# Altium integrated library TI Data Converters Analog to Digital Converter.IntLib: 2197 symbols (part 168 of 168)
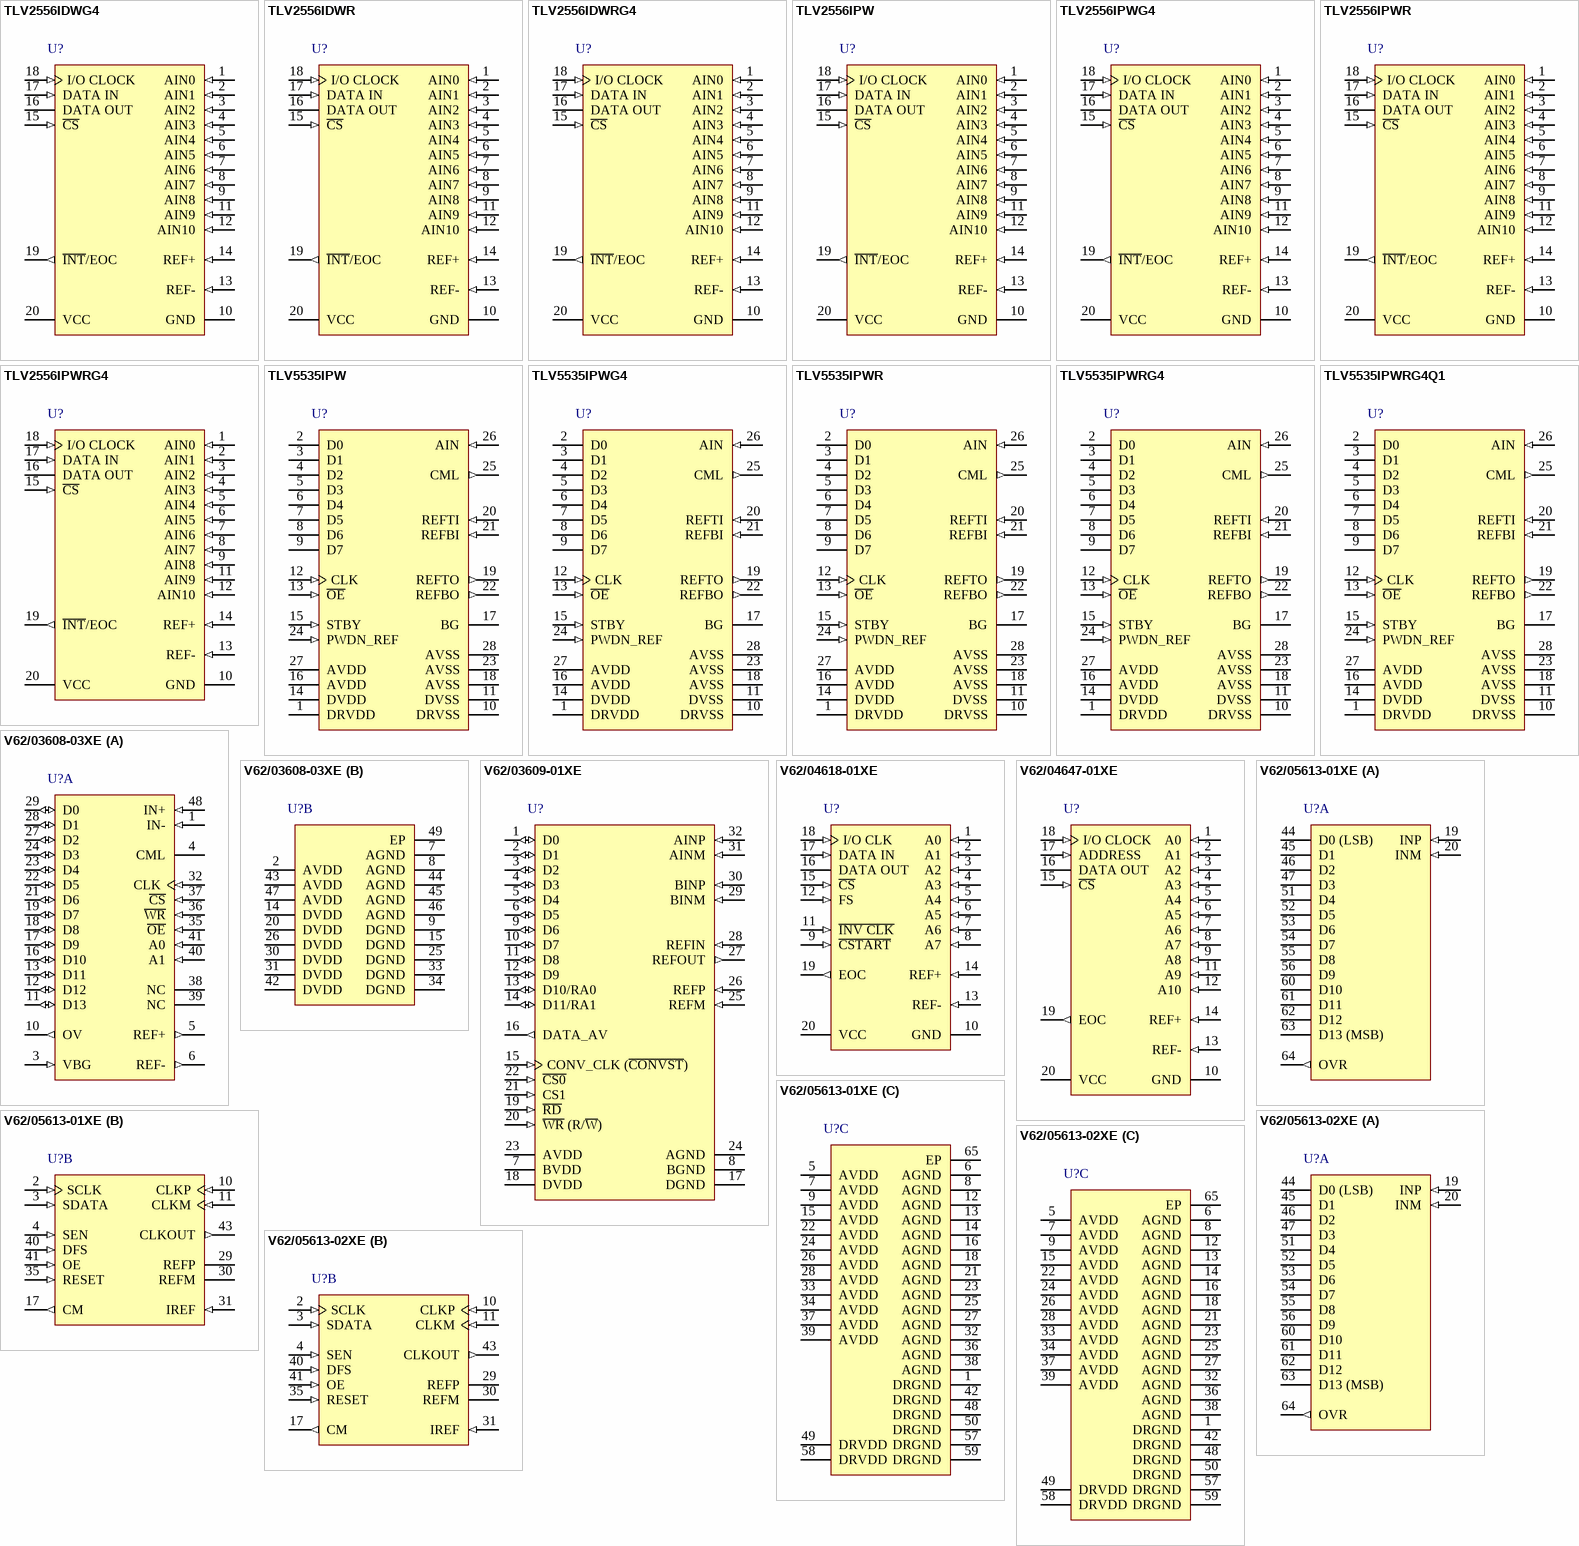
[diagram p293: symbols TLV2556IDWG4 to V62/05613-02XE]

## V62/05613-01XE
designator U?
Enhanced Product 14-Bit 125 MSPS ADC, -55 to 125 degC, 64-pin QFP (PAP64), Green (RoHS & no Sb/Br); Manufacturer: Texas Instruments; PartNumber: V62/05613-01XE; # Input Channels: 1; Analog Voltage AV/DD(Max)(V): 3.6; Analog Voltage AV/DD(Min)(V): 3; Architecture: Pipeline; ENOB(Bits): 11.3; INL(Max)(+/-LSB): 8; Interface: Parallel CMOS,Serial SPI Interface; Resolution(Bits): 14; Sample Rate (max)(SPS): 125M; SFDR(dB): 84; SINAD(dB): 70; SNR(dB): 71.5; SubFamily: High Speed ADC (>10MSPS); DatasheetVersion: SGLS286C; PackageVersion: 4147702/C, 08/2003; PackageReference: PAP64-4130X4130TP; PackageDescription: 64-Pin PowerPAD(TM) Plastic Quad Flatpack, Body 10 x 10 mm, Pitch 0.5 mm; Supplier 1: Mouser; Supplier Part Number 1: 926-ADC12081CIVT; Digital Supply(Max)(V): 3.6; Digital Supply(Min)(V): 3; Eco-Plan: Green (RoHS & no Sb/Br); Mounting Technology: Surface Mount; Code_JEDEC: MS-026; ComponentLink1Description: Manufacturer URL; ComponentLink1URL: http://www.ti.com/; ComponentLink2Description: Datasheet; ComponentLink2URL: http://www.ti.com/general/docs/lit/getliterature.tsp?genericPartNumber=ADS5500-EP&fileType=pdf; ComponentLink3Description: Package Specification; ComponentLink3URL: http://www.ti.com/lit/ml/mpqf071b/mpqf071b.pdf
footprint TI-PAP64-4130X4130TP_N (QFP, 64-Leads, Body 10x10mm, Pitch 0.5mm, Thermal Pad 4.15x4.15mm, IPC Medium Density)
footprint TI-PAP64-4130X4130TP_L (QFP, 64-Leads, Body 10x10mm, Pitch 0.5mm, Thermal Pad 4.15x4.15mm, IPC High Density)
footprint TI-PAP64-4130X4130TP_M (QFP, 64-Leads, Body 10x10mm, Pitch 0.5mm, Thermal Pad 4.15x4.15mm, IPC Low Density)
part A pins: 19 INP (in) "Differential analog input (positive)", 20 INM (in) "Differential analog input (negative)", 44 D0 (LSB) (hiz) "Parallel data output", 45 D1 (hiz) "Parallel data output", 46 D2 (hiz) "Parallel data output", 47 D3 (hiz) "Parallel data output", 51 D4 (hiz) "Parallel data output", 52 D5 (hiz) "Parallel data output", 53 D6 (hiz) "Parallel data output", 54 D7 (hiz) "Parallel data output", 55 D8 (hiz) "Parallel data output", 56 D9 (hiz) "Parallel data output", 60 D10 (hiz) "Parallel data output", 61 D11 (hiz) "Parallel data output", 62 D12 (hiz) "Parallel data output", 63 D13 (MSB) (hiz) "Parallel data output", 64 OVR (out) "Over-range indicator bit"
part B pins: 2 SCLK (in) "Serial interface clock", 3 SDATA (in) "Serial interface data", 4 SEN (in) "Serial interface chip select", 10 CLKP (in) "Data converter differential input clock (positive)", 11 CLKM (in) "Data converter differential input clock (negative)", 17 CM (out) "Common-mode output voltage", 29 REFP "Reference voltage (positive); 1-uF capacitor in series with a 1-ohm resistor to GND", 30 REFM "Reference voltage (negative); 1-uF capacitor in series with a 1-ohm resistor to GND", 31 IREF (in) "Current set; 56-kohm resistor to GND; do not connect capacitors", 35 RESET (in) "Reset (active high), 200-kohm resistor to AVDD", 40 DFS (in) "Data format and clock out polarity select", 41 OE (in) "Output enable (active high)", 43 CLKOUT (out) "CMOS clock out in sync with data"
part C pins: 1 DRGND (power) "Output driver ground", 5 AVDD (power) "Analog power supply", 6 AGND (power) "Analog ground", 7 AVDD (power) "Analog power supply", 8 AGND (power) "Analog ground", 9 AVDD (power) "Analog power supply", 12 AGND (power) "Analog ground", 13 AGND (power) "Analog ground", 14 AGND (power) "Analog ground", 15 AVDD (power) "Analog power supply", 16 AGND (power) "Analog ground", 18 AGND (power) "Analog ground", 21 AGND (power) "Analog ground", 22 AVDD (power) "Analog power supply", 23 AGND (power) "Analog ground", 24 AVDD (power) "Analog power supply", 25 AGND (power) "Analog ground", 26 AVDD (power) "Analog power supply", 27 AGND (power) "Analog ground", 28 AVDD (power) "Analog power supply", 32 AGND (power) "Analog ground", 33 AVDD (power) "Analog power supply", 34 AVDD (power) "Analog power supply", 36 AGND (power) "Analog ground", 37 AVDD (power) "Analog power supply", 38 AGND (power) "Analog ground", 39 AVDD (power) "Analog power supply", 42 DRGND (power) "Output driver ground", 48 DRGND (power) "Output driver ground", 49 DRVDD (power) "Output driver power supply", 50 DRGND (power) "Output driver ground", 57 DRGND (power) "Output driver ground", 58 DRVDD (power) "Output driver power supply", 59 DRGND (power) "Output driver ground", 65 EP (power) "Connected to Analog Ground"

## V62/05613-02XE
designator U?
Enhanced Product 14-Bit 125 MSPS ADC, -55 to 125 degC, 64-pin QFP (PAP64), Green (RoHS & no Sb/Br); Manufacturer: Texas Instruments; PartNumber: V62/05613-02XE; # Input Channels: 1; Analog Voltage AV/DD(Max)(V): 3.6; Analog Voltage AV/DD(Min)(V): 3; Architecture: Pipeline; ENOB(Bits): 11.3; INL(Max)(+/-LSB): 8; Interface: Parallel CMOS,Serial SPI Interface; Resolution(Bits): 14; Sample Rate (max)(SPS): 125M; SFDR(dB): 84; SINAD(dB): 70; SNR(dB): 71.5; SubFamily: High Speed ADC (>10MSPS); DatasheetVersion: SGLS286C; PackageVersion: 4147702/C, 08/2003; PackageReference: PAP64-4130X4130TP; PackageDescription: 64-Pin PowerPAD(TM) Plastic Quad Flatpack, Body 10 x 10 mm, Pitch 0.5 mm; Digital Supply(Max)(V): 3.6; Digital Supply(Min)(V): 3; Eco-Plan: Green (RoHS & no Sb/Br); Mounting Technology: Surface Mount; Code_JEDEC: MS-026; ComponentLink1Description: Manufacturer URL; ComponentLink1URL: http://www.ti.com/; ComponentLink2Description: Datasheet; ComponentLink2URL: http://www.ti.com/general/docs/lit/getliterature.tsp?genericPartNumber=ADS5500-EP&fileType=pdf; ComponentLink3Description: Package Specification; ComponentLink3URL: http://www.ti.com/lit/ml/mpqf071b/mpqf071b.pdf
footprint TI-PAP64-4130X4130TP_N (QFP, 64-Leads, Body 10x10mm, Pitch 0.5mm, Thermal Pad 4.15x4.15mm, IPC Medium Density)
footprint TI-PAP64-4130X4130TP_L (QFP, 64-Leads, Body 10x10mm, Pitch 0.5mm, Thermal Pad 4.15x4.15mm, IPC High Density)
footprint TI-PAP64-4130X4130TP_M (QFP, 64-Leads, Body 10x10mm, Pitch 0.5mm, Thermal Pad 4.15x4.15mm, IPC Low Density)
part A pins: 19 INP (in) "Differential analog input (positive)", 20 INM (in) "Differential analog input (negative)", 44 D0 (LSB) (hiz) "Parallel data output", 45 D1 (hiz) "Parallel data output", 46 D2 (hiz) "Parallel data output", 47 D3 (hiz) "Parallel data output", 51 D4 (hiz) "Parallel data output", 52 D5 (hiz) "Parallel data output", 53 D6 (hiz) "Parallel data output", 54 D7 (hiz) "Parallel data output", 55 D8 (hiz) "Parallel data output", 56 D9 (hiz) "Parallel data output", 60 D10 (hiz) "Parallel data output", 61 D11 (hiz) "Parallel data output", 62 D12 (hiz) "Parallel data output", 63 D13 (MSB) (hiz) "Parallel data output", 64 OVR (out) "Over-range indicator bit"
part B pins: 2 SCLK (in) "Serial interface clock", 3 SDATA (in) "Serial interface data", 4 SEN (in) "Serial interface chip select", 10 CLKP (in) "Data converter differential input clock (positive)", 11 CLKM (in) "Data converter differential input clock (negative)", 17 CM (out) "Common-mode output voltage", 29 REFP "Reference voltage (positive); 1-uF capacitor in series with a 1-ohm resistor to GND", 30 REFM "Reference voltage (negative); 1-uF capacitor in series with a 1-ohm resistor to GND", 31 IREF (in) "Current set; 56-kohm resistor to GND; do not connect capacitors", 35 RESET (in) "Reset (active high), 200-kohm resistor to AVDD", 40 DFS (in) "Data format and clock out polarity select", 41 OE (in) "Output enable (active high)", 43 CLKOUT (out) "CMOS clock out in sync with data"
part C pins: 1 DRGND (power) "Output driver ground", 5 AVDD (power) "Analog power supply", 6 AGND (power) "Analog ground", 7 AVDD (power) "Analog power supply", 8 AGND (power) "Analog ground", 9 AVDD (power) "Analog power supply", 12 AGND (power) "Analog ground", 13 AGND (power) "Analog ground", 14 AGND (power) "Analog ground", 15 AVDD (power) "Analog power supply", 16 AGND (power) "Analog ground", 18 AGND (power) "Analog ground", 21 AGND (power) "Analog ground", 22 AVDD (power) "Analog power supply", 23 AGND (power) "Analog ground", 24 AVDD (power) "Analog power supply", 25 AGND (power) "Analog ground", 26 AVDD (power) "Analog power supply", 27 AGND (power) "Analog ground", 28 AVDD (power) "Analog power supply", 32 AGND (power) "Analog ground", 33 AVDD (power) "Analog power supply", 34 AVDD (power) "Analog power supply", 36 AGND (power) "Analog ground", 37 AVDD (power) "Analog power supply", 38 AGND (power) "Analog ground", 39 AVDD (power) "Analog power supply", 42 DRGND (power) "Output driver ground", 48 DRGND (power) "Output driver ground", 49 DRVDD (power) "Output driver power supply", 50 DRGND (power) "Output driver ground", 57 DRGND (power) "Output driver ground", 58 DRVDD (power) "Output driver power supply", 59 DRGND (power) "Output driver ground", 65 EP (power) "Connected to Analog Ground"

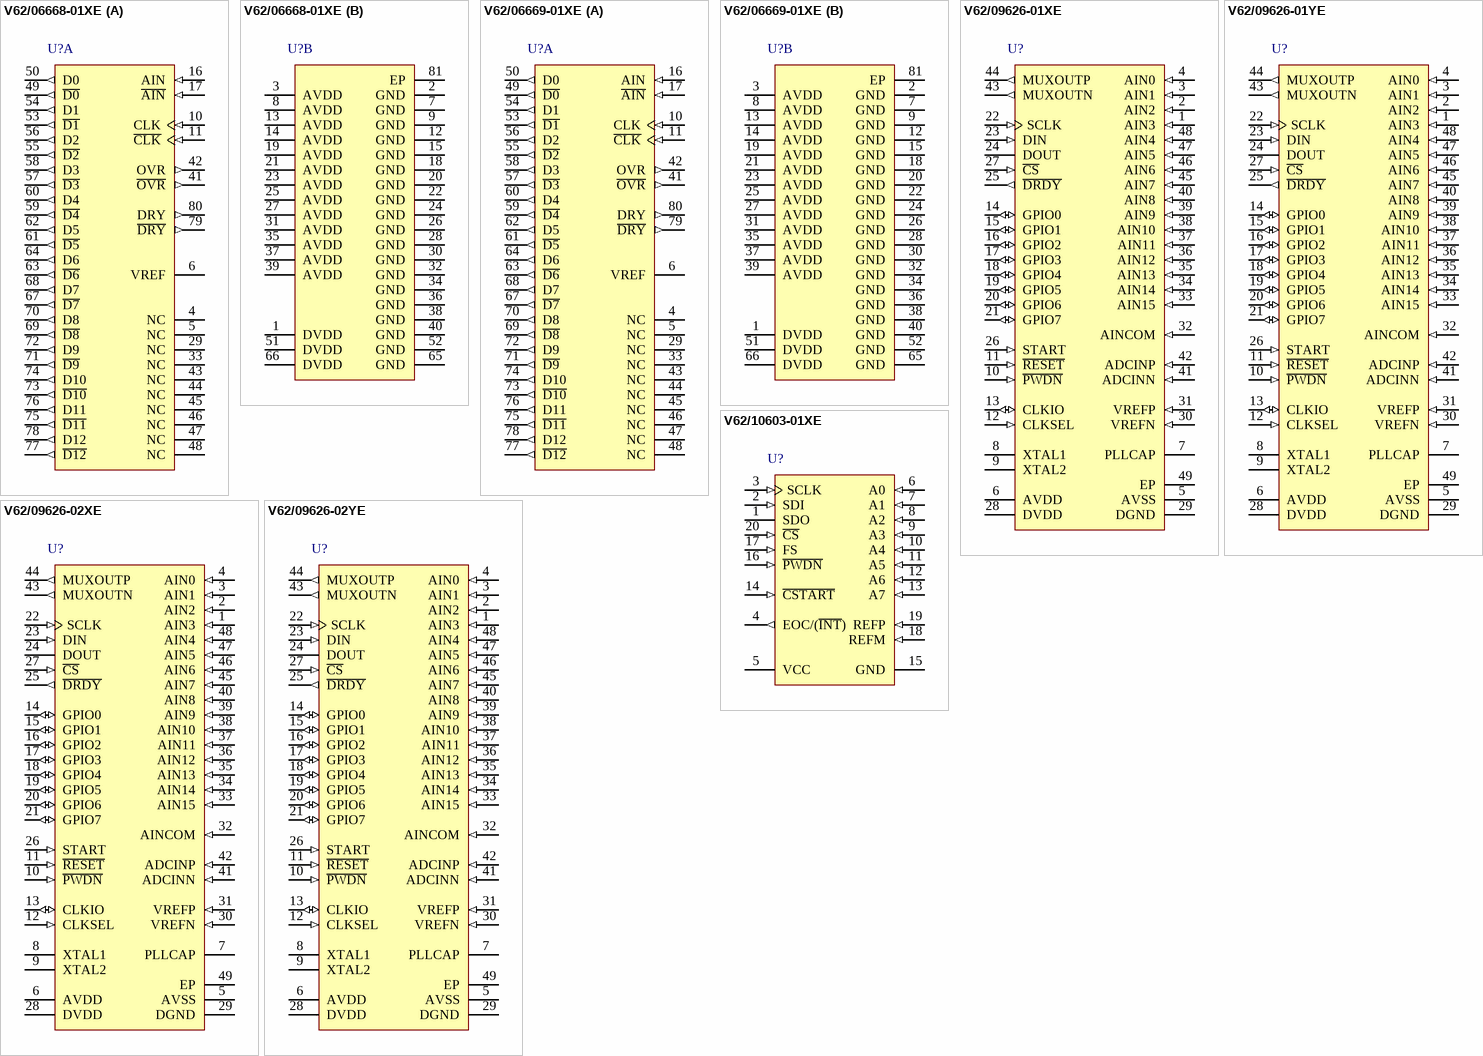
[diagram p126: symbols V62/06668-01XE to V62/10603-01XE]

## V62/06668-01XE
designator U?
Enhanced Product 13-Bit 250 MSPS ADC, -55 to 125 degC, 80-pin QFP (PFP80), Green (RoHS & no Sb/Br); Manufacturer: Texas Instruments; PartNumber: V62/06668-01XE; # Input Channels: 1; Analog Voltage AV/DD(Max)(V): 5.25; Analog Voltage AV/DD(Min)(V): 4.75; Architecture: Pipeline; Digital Supply(Max)(V): 3.6; Digital Supply(Min)(V): 3; ENOB(Bits): 11.2; INL(Max)(+/-LSB): 2.2; Interface: Parallel LVDS; Resolution(Bits): 13; Sample Rate (max)(SPS): 250M; SFDR(dB): 85; SINAD(dB): 69; SNR(dB): 69.3; SubFamily: High Speed ADC (>10MSPS); DatasheetVersion: SGLS360; PackageVersion: 4146925/C, 07/2011; PackageReference: PFP80-6825X6825TP; PackageDescription: 80-Pin PowerPAD(TM) Plastic Quad Flatpack, Body 12 x 12 mm, Pitch 0.5 mm; Supplier 1: Digi-Key; Supplier Part Number 1: ADS5407IZAY-ND; Supplier 2: Newark; Supplier Part Number 2: 73W9435; Supplier 3: Mouser; Supplier Part Number 3: 595-ADS5407IZAY; Eco-Plan: Green (RoHS & no Sb/Br); Mounting Technology: Surface Mount; Code_JEDEC: MS-026; ComponentLink1Description: Manufacturer URL; ComponentLink1URL: http://www.ti.com/; ComponentLink2Description: Datasheet; ComponentLink2URL: http://www.ti.com/general/docs/lit/getliterature.tsp?genericPartNumber=ADS5444-EP&fileType=pdf; ComponentLink3Description: Package Specification; ComponentLink3URL: http://www.ti.com/litv/pdf/mpqf049b
footprint TI-PFP80-6825X6825TP_N (QFP, 80-Leads, Body 12x12mm, Pitch 0.5mm, Thermal Pad 7.5x7.5mm, IPC Medium Density)
footprint TI-PFP80-6825X6825TP_L (QFP, 80-Leads, Body 12x12mm, Pitch 0.5mm, Thermal Pad 7.5x7.5mm, IPC High Density)
footprint TI-PFP80-6825X6825TP_M (QFP, 80-Leads, Body 12x12mm, Pitch 0.5mm, Thermal Pad 7.5x7.5mm, IPC Low Density)
part A pins: 4 NC "No connect", 5 NC "No connect", 6 VREF "Reference voltage", 10 CLK (in) "Differential input clock (positive). Conversion initiated on rising edge", 11 ~{CLK} (in) "Differential input clock (negative)", 16 AIN (in) "Differential input signal (positive)", 17 ~{AIN} (in) "Differential input signal (negative)", 29 NC "No connect", 33 NC "No connect", 41 ~{OVR} (out) "Over range indicator LVDS output. A logic high signals an analog input in excess of the full-scale range", 42 OVR (out) "Over range indicator LVDS output. A logic high signals an analog input in excess of the full-scale range", 43 NC "No connect", 44 NC "No connect", 45 NC "No connect", 46 NC "No connect", 47 NC "No connect", 48 NC "No connect", 49 ~{D0} (out) "LVDS digital output pair, least-significant bit (LSB)", 50 D0 (out) "LVDS digital output pair, least-significant bit (LSB)", 53 ~{D1} (out) "LVDS digital output pairs", 54 D1 (out) "LVDS digital output pairs", 55 ~{D2} (out) "LVDS digital output pairs", 56 D2 (out) "LVDS digital output pairs", 57 ~{D3} (out) "LVDS digital output pairs", 58 D3 (out) "LVDS digital output pairs", 59 ~{D4} (out) "LVDS digital output pairs", 60 D4 (out) "LVDS digital output pairs", 61 ~{D5} (out) "LVDS digital output pairs", 62 D5 (out) "LVDS digital output pairs", 63 ~{D6} (out) "LVDS digital output pairs", 64 D6 (out) "LVDS digital output pairs", 67 ~{D7} (out) "LVDS digital output pairs", 68 D7 (out) "LVDS digital output pairs", 69 ~{D8} (out) "LVDS digital output pairs", 70 D8 (out) "LVDS digital output pairs", 71 ~{D9} (out) "LVDS digital output pairs", 72 D9 (out) "LVDS digital output pairs", 73 ~{D10} (out) "LVDS digital output pairs", 74 D10 (out) "LVDS digital output pairs", 75 ~{D11} (out) "LVDS digital output pairs", 76 D11 (out) "LVDS digital output pairs", 77 ~{D12} (out) "LVDS digital output pair, most-significant bit (MSB)", 78 D12 (out) "LVDS digital output pair, most-significant bit (MSB)", 79 ~{DRY} (out) "Data ready LVDS output pair", 80 DRY (out) "Data ready LVDS output pair"
part B pins: 1 DVDD (power) "Output driver power supply", 2 GND (power) "Ground", 3 AVDD (power) "Analog power supply", 7 GND (power) "Ground", 8 AVDD (power) "Analog power supply", 9 GND (power) "Ground", 12 GND (power) "Ground", 13 AVDD (power) "Analog power supply", 14 AVDD (power) "Analog power supply", 15 GND (power) "Ground", 18 GND (power) "Ground", 19 AVDD (power) "Analog power supply", 20 GND (power) "Ground", 21 AVDD (power) "Analog power supply", 22 GND (power) "Ground", 23 AVDD (power) "Analog power supply", 24 GND (power) "Ground", 25 AVDD (power) "Analog power supply", 26 GND (power) "Ground", 27 AVDD (power) "Analog power supply", 28 GND (power) "Ground", 30 GND (power) "Ground", 31 AVDD (power) "Analog power supply", 32 GND (power) "Ground", 34 GND (power) "Ground", 35 AVDD (power) "Analog power supply", 36 GND (power) "Ground", 37 AVDD (power) "Analog power supply", 38 GND (power) "Ground", 39 AVDD (power) "Analog power supply", 40 GND (power) "Ground", 51 DVDD (power) "Output driver power supply", 52 GND (power) "Ground", 65 GND (power) "Ground", 66 DVDD (power) "Output driver power supply", 81 EP (power)

## V62/06669-01XE
designator U?
Enhanced Product 13-Bit 210 MSPS ADC, -55 to 125 degC, 80-pin QFP (PFP80), Green (RoHS & no Sb/Br); Manufacturer: Texas Instruments; PartNumber: V62/06669-01XE; # Input Channels: 1; Analog Voltage AV/DD(Max)(V): 5.25; Analog Voltage AV/DD(Min)(V): 4.75; Architecture: Pipeline; Digital Supply(Max)(V): 3.6; Digital Supply(Min)(V): 3; ENOB(Bits): 11.4; INL(Max)(+/-LSB): 2.2; Interface: Parallel LVDS; Resolution(Bits): 13; Sample Rate (max)(SPS): 210M; SFDR(dB): 84; SINAD(dB): 69.6; SNR(dB): 69.8; SubFamily: High Speed ADC (>10MSPS); DatasheetVersion: SGLS359; PackageVersion: 4146925/C, 07/2011; PackageReference: PFP80-6825X6825TP; PackageDescription: 80-Pin PowerPAD(TM) Plastic Quad Flatpack, Body 12 x 12 mm, Pitch 0.5 mm; Supplier 1: Digi-Key; Supplier Part Number 1: ADC121S101QIMF/NOPB-ND; Supplier 2: Newark; Supplier Part Number 2: 55W5772; Supplier 3: Mouser; Supplier Part Number 3: 595-DC121S101QIMFNPB; Eco-Plan: Green (RoHS & no Sb/Br); Mounting Technology: Surface Mount; Code_JEDEC: MS-026; ComponentLink1Description: Manufacturer URL; ComponentLink1URL: http://www.ti.com/; ComponentLink2Description: Datasheet; ComponentLink2URL: http://www.ti.com/general/docs/lit/getliterature.tsp?genericPartNumber=ADS5440-EP&fileType=pdf; ComponentLink3Description: Package Specification; ComponentLink3URL: http://www.ti.com/litv/pdf/mpqf049b
footprint TI-PFP80-6825X6825TP_N (QFP, 80-Leads, Body 12x12mm, Pitch 0.5mm, Thermal Pad 7.5x7.5mm, IPC Medium Density)
footprint TI-PFP80-6825X6825TP_L (QFP, 80-Leads, Body 12x12mm, Pitch 0.5mm, Thermal Pad 7.5x7.5mm, IPC High Density)
footprint TI-PFP80-6825X6825TP_M (QFP, 80-Leads, Body 12x12mm, Pitch 0.5mm, Thermal Pad 7.5x7.5mm, IPC Low Density)
part A pins: 4 NC "No connect", 5 NC "No connect", 6 VREF "Reference voltage", 10 CLK (in) "Differential input clock (positive). Conversion initiated on rising edge", 11 ~{CLK} (in) "Differential input clock (negative)", 16 AIN (in) "Differential input signal (positive)", 17 ~{AIN} (in) "Differential input signal (negative)", 29 NC "No connect", 33 NC "No connect", 41 ~{OVR} (out) "Over range indicator LVDS output. A logic high signals an analog input in excess of the full-scale range", 42 OVR (out) "Over range indicator LVDS output. A logic high signals an analog input in excess of the full-scale range", 43 NC "No connect", 44 NC "No connect", 45 NC "No connect", 46 NC "No connect", 47 NC "No connect", 48 NC "No connect", 49 ~{D0} (out) "LVDS digital output pair, least-significant bit (LSB)", 50 D0 (out) "LVDS digital output pair, least-significant bit (LSB)", 53 ~{D1} (out) "LVDS digital output pairs", 54 D1 (out) "LVDS digital output pairs", 55 ~{D2} (out) "LVDS digital output pairs", 56 D2 (out) "LVDS digital output pairs", 57 ~{D3} (out) "LVDS digital output pairs", 58 D3 (out) "LVDS digital output pairs", 59 ~{D4} (out) "LVDS digital output pairs", 60 D4 (out) "LVDS digital output pairs", 61 ~{D5} (out) "LVDS digital output pairs", 62 D5 (out) "LVDS digital output pairs", 63 ~{D6} (out) "LVDS digital output pairs", 64 D6 (out) "LVDS digital output pairs", 67 ~{D7} (out) "LVDS digital output pairs", 68 D7 (out) "LVDS digital output pairs", 69 ~{D8} (out) "LVDS digital output pairs", 70 D8 (out) "LVDS digital output pairs", 71 ~{D9} (out) "LVDS digital output pairs", 72 D9 (out) "LVDS digital output pairs", 73 ~{D10} (out) "LVDS digital output pairs", 74 D10 (out) "LVDS digital output pairs", 75 ~{D11} (out) "LVDS digital output pairs", 76 D11 (out) "LVDS digital output pairs", 77 ~{D12} (out) "LVDS digital output pair, most-significant bit (MSB)", 78 D12 (out) "LVDS digital output pair, most-significant bit (MSB)", 79 ~{DRY} (out) "Data ready LVDS output pair", 80 DRY (out) "Data ready LVDS output pair"
part B pins: 1 DVDD (power) "Output driver power supply", 2 GND (power) "Ground", 3 AVDD (power) "Analog power supply", 7 GND (power) "Ground", 8 AVDD (power) "Analog power supply", 9 GND (power) "Ground", 12 GND (power) "Ground", 13 AVDD (power) "Analog power supply", 14 AVDD (power) "Analog power supply", 15 GND (power) "Ground", 18 GND (power) "Ground", 19 AVDD (power) "Analog power supply", 20 GND (power) "Ground", 21 AVDD (power) "Analog power supply", 22 GND (power) "Ground", 23 AVDD (power) "Analog power supply", 24 GND (power) "Ground", 25 AVDD (power) "Analog power supply", 26 GND (power) "Ground", 27 AVDD (power) "Analog power supply", 28 GND (power) "Ground", 30 GND (power) "Ground", 31 AVDD (power) "Analog power supply", 32 GND (power) "Ground", 34 GND (power) "Ground", 35 AVDD (power) "Analog power supply", 36 GND (power) "Ground", 37 AVDD (power) "Analog power supply", 38 GND (power) "Ground", 39 AVDD (power) "Analog power supply", 40 GND (power) "Ground", 51 DVDD (power) "Output driver power supply", 52 GND (power) "Ground", 65 GND (power) "Ground", 66 DVDD (power) "Output driver power supply", 81 EP (power)

## V62/09626-01XE
designator U?
Enhanced Product 16-Channel, 24-Bit ADC, -55 to 125 degC, 48-pin QFN (RTC48), Green (RoHS & no Sb/Br); Manufacturer: Texas Instruments; PartNumber: V62/09626-01XE; # Input Channels: 16; Analog Voltage AV/DD(Max)(V): 5.25; Analog Voltage AV/DD(Min)(V): 4.75; Architecture: Delta-Sigma; Digital Supply(Min)(V): 2.7; Resolution(Bits): 24; Sample Rate (max)(SPS): 125k; SubFamily: Precision ADC (<=10MSPS); DatasheetVersion: SBAS445D; PackageVersion: 4205143/D, 05/2011; PackageReference: RTC48-5100X5100TP; PackageDescription: 48-Pin Plastic Quad Flatpack No-Lead, Body 7 x 7 mm, Pitch 0.5 mm; Supplier 1: Digi-Key; Supplier Part Number 1: ADS5295PFP-ND; Supplier 2: Newark; Supplier Part Number 2: 55W5787; Supplier 3: Mouser; Supplier Part Number 3: 595-ADS5295PFP; Digital Supply(Max)(V): 5.25; Eco-Plan: Green (RoHS & no Sb/Br); Mounting Technology: Surface Mount; ComponentLink1Description: Manufacturer URL; ComponentLink1URL: http://www.ti.com/; ComponentLink2Description: Datasheet; ComponentLink2URL: http://www.ti.com/general/docs/lit/getliterature.tsp?genericPartNumber=ADS1258-EP&fileType=pdf; ComponentLink3Description: Package Specification; ComponentLink3URL: http://www.ti.com/litv/pdf/mpqf140c
footprint TI-RTC48-5100X5100TP_V (QFN, 48-Leads, Body 7x7mm, Pitch 0.5mm, Thermal Pad 5.1x5.1mm, TI Recommended)
pins: 1 AIN3 (in) "Analog Input 3: Single-Ended Channel 3, Differential Channel 1 (-)", 2 AIN2 (in) "Analog Input 2: Single-Ended Channel 2, Differential Channel 1 (+)", 3 AIN1 (in) "Analog Input 1: Single-Ended Channel 1, Differential Channel 0 (-)", 4 AIN0 (in) "Analog Input 0: Single-Ended Channel 0, Differential Channel 0 (+)", 5 AVSS (power) "Negative Analog Power Supply: 0V for unipolar operation, -2.5 V for bipolar operation. (Internally connected to exposed thermal pad of QFN package.)", 6 AVDD (power) "Positive Analog Power Supply: 5 V for unipolar operation, 2.5 V for bipolar operation.", 7 PLLCAP "PLL Bypass Capacitor: Connect 22nF capacitor to AVSS when using crystal oscillator.", 8 XTAL1 "32.768-kHz Crystal Oscillator Input 1; see the Chrystal Oscillator section.", 9 XTAL2 "32.768-kHz Crystal Oscillator Input 2; see the Chrystal Oscillator section.", 10 ~{PWDN} (in) "Power-Down Input: Hold low for minimum of two fCLK cycles to engage low-power mode.", 11 ~{RESET} (in) "Reset Input: Hold low for minimum of two fCLK cycles to reset the device.", 12 CLKSEL (in) "Clock Select Input: Low = Activates Crystal Oscillator, fCLK output on CLKIO. High = Disables Crystal Oscillator, apply fCLK to CLKIO.", 13 CLKIO (io) "System Clock Input/Output (See CLKSEL pin.)", 14 GPIO0 (io) "General-Purpose Digital Input/Output 0", 15 GPIO1 (io) "General-Purpose Digital Input/Output 1", 16 GPIO2 (io) "General-Purpose Digital Input/Output 2", 17 GPIO3 (io) "General-Purpose Digital Input/Output 3", 18 GPIO4 (io) "General-Purpose Digital Input/Output 4", 19 GPIO5 (io) "General-Purpose Digital Input/Output 5", 20 GPIO6 (io) "General-Purpose Digital Input/Output 6", 21 GPIO7 (io) "General-Purpose Digital Input/Output 7", 22 SCLK (in) "SPI Interface Clock Input: Data clocked in on rising edge, clocked out on falling edge.", 23 DIN (in) "SPI Interface Data Input: Data is input to the device.", 24 DOUT (hiz) "SPI Interface Data Output: Data is output from the device.", 25 ~{DRDY} (out) "Data Ready Output: Active low.", 26 START (in) "Start Conversion Input: Active high.", 27 ~{CS} (in) "SPI Interface Chip Select Input: Active low.", 28 DVDD (power) "Digital Power Supply: 2.7 V to 5.25 V", 29 DGND (power) "Digital Ground", 30 VREFN (in) "Reference Input Negative", 31 VREFP (in) "Reference Input Positive", 32 AINCOM (in) "Analog Input Common: Common input pin to all single-ended inputs.", 33 AIN15 (in) "Analog Input 15: Single-Ended Channel 15, Differential Channel 7 (-)", 34 AIN14 (in) "Analog Input 14: Single-Ended Channel 14, Differential Channel 7 (+)", 35 AIN13 (in) "Analog Input 13: Single-Ended Channel 13, Differential Channel 6 (-)", 36 AIN12 (in) "Analog Input 12: Single-Ended Channel 12, Differential Channel 6 (+)", 37 AIN11 (in) "Analog Input 11: Single-Ended Channel 11, Differential Channel 5 (-)", 38 AIN10 (in) "Analog Input 10: Single-Ended Channel 10, Differential Channel 5 (+)", 39 AIN9 (in) "Analog Input 9: Single-Ended Channel 9, Differential Channel 4 (-)", 40 AIN8 (in) "Analog Input 8: Single-Ended Channel 8, Differential Channel 4 (+)", 41 ADCINN (in) "ADC Differential Input (-)", 42 ADCINP (in) "ADC Differential Input (+)", 43 MUXOUTN (out) "Multiplexer Differential Output (-)", 44 MUXOUTP (out) "Multiplexer Differential Output (+)", 45 AIN7 (in) "Analog Input 7: Single-Ended Channel 7, Differential Channel 3 (-)", 46 AIN6 (in) "Analog Input 6 : Single-Ended Channel 6, Differential Channel 3 (+)", 47 AIN5 (in) "Analog Input 5: Single-Ended Channel 5, Differential Channel 2 (-)", 48 AIN4 (in) "Analog Input 4: Single-Ended Channel 4, Differential Channel 2 (+)", 49 EP (power)

## V62/09626-01YE
designator U?
Enhanced Product 16-Channel, 24-Bit ADC, -55 to 125 degC, 48-pin QFP (PHP48), Green (RoHS & no Sb/Br); Manufacturer: Texas Instruments; PartNumber: V62/09626-01YE; # Input Channels: 16; Analog Voltage AV/DD(Max)(V): 5.25; Analog Voltage AV/DD(Min)(V): 4.75; Architecture: Delta-Sigma; Digital Supply(Min)(V): 2.7; Resolution(Bits): 24; Sample Rate (max)(SPS): 125k; SubFamily: Precision ADC (<=10MSPS); DatasheetVersion: SBAS445D; PackageVersion: 4146927/B, 08/2003; PackageReference: PHP48-4050X4050TP; PackageDescription: 48-Pin PowerPAD(TM) Plastic Quad Flatpack, Body 7 x 7 mm, Pitch 0.5 mm; Supplier 1: Digi-Key; Supplier Part Number 1: ADC128S052QCMT/NOPB-ND; Supplier 2: Newark; Supplier Part Number 2: 31T9242; Supplier 3: Mouser; Supplier Part Number 3: 926-AD128S052QCMTNPB; Digital Supply(Max)(V): 5.25; Eco-Plan: Green (RoHS & no Sb/Br); Mounting Technology: Surface Mount; Code_JEDEC: MS-026; ComponentLink1Description: Manufacturer URL; ComponentLink1URL: http://www.ti.com/; ComponentLink2Description: Datasheet; ComponentLink2URL: http://www.ti.com/general/docs/lit/getliterature.tsp?genericPartNumber=ADS1258-EP&fileType=pdf; ComponentLink3Description: Package Specification; ComponentLink3URL: http://www.ti.com/litv/pdf/mpqf051a
footprint TI-PHP48-4050X4050TP_N (QFP, 48-Leads, Body 7x7mm, Pitch 0.5mm, Thermal Pad 4.6x4.6mm, IPC Medium Density)
footprint TI-PHP48-4050X4050TP_L (QFP, 48-Leads, Body 7x7mm, Pitch 0.5mm, Thermal Pad 4.6x4.6mm, IPC High Density)
footprint TI-PHP48-4050X4050TP_M (QFP, 48-Leads, Body 7x7mm, Pitch 0.5mm, Thermal Pad 4.6x4.6mm, IPC Low Density)
pins: 1 AIN3 (in) "Analog Input 3: Single-Ended Channel 3, Differential Channel 1 (-)", 2 AIN2 (in) "Analog Input 2: Single-Ended Channel 2, Differential Channel 1 (+)", 3 AIN1 (in) "Analog Input 1: Single-Ended Channel 1, Differential Channel 0 (-)", 4 AIN0 (in) "Analog Input 0: Single-Ended Channel 0, Differential Channel 0 (+)", 5 AVSS (power) "Negative Analog Power Supply: 0V for unipolar operation, -2.5 V for bipolar operation. (Internally connected to exposed thermal pad of QFN package.)", 6 AVDD (power) "Positive Analog Power Supply: 5 V for unipolar operation, 2.5 V for bipolar operation.", 7 PLLCAP "PLL Bypass Capacitor: Connect 22nF capacitor to AVSS when using crystal oscillator.", 8 XTAL1 "32.768-kHz Crystal Oscillator Input 1; see the Chrystal Oscillator section.", 9 XTAL2 "32.768-kHz Crystal Oscillator Input 2; see the Chrystal Oscillator section.", 10 ~{PWDN} (in) "Power-Down Input: Hold low for minimum of two fCLK cycles to engage low-power mode.", 11 ~{RESET} (in) "Reset Input: Hold low for minimum of two fCLK cycles to reset the device.", 12 CLKSEL (in) "Clock Select Input: Low = Activates Crystal Oscillator, fCLK output on CLKIO. High = Disables Crystal Oscillator, apply fCLK to CLKIO.", 13 CLKIO (io) "System Clock Input/Output (See CLKSEL pin.)", 14 GPIO0 (io) "General-Purpose Digital Input/Output 0", 15 GPIO1 (io) "General-Purpose Digital Input/Output 1", 16 GPIO2 (io) "General-Purpose Digital Input/Output 2", 17 GPIO3 (io) "General-Purpose Digital Input/Output 3", 18 GPIO4 (io) "General-Purpose Digital Input/Output 4", 19 GPIO5 (io) "General-Purpose Digital Input/Output 5", 20 GPIO6 (io) "General-Purpose Digital Input/Output 6", 21 GPIO7 (io) "General-Purpose Digital Input/Output 7", 22 SCLK (in) "SPI Interface Clock Input: Data clocked in on rising edge, clocked out on falling edge.", 23 DIN (in) "SPI Interface Data Input: Data is input to the device.", 24 DOUT (hiz) "SPI Interface Data Output: Data is output from the device.", 25 ~{DRDY} (out) "Data Ready Output: Active low.", 26 START (in) "Start Conversion Input: Active high.", 27 ~{CS} (in) "SPI Interface Chip Select Input: Active low.", 28 DVDD (power) "Digital Power Supply: 2.7 V to 5.25 V", 29 DGND (power) "Digital Ground", 30 VREFN (in) "Reference Input Negative", 31 VREFP (in) "Reference Input Positive", 32 AINCOM (in) "Analog Input Common: Common input pin to all single-ended inputs.", 33 AIN15 (in) "Analog Input 15: Single-Ended Channel 15, Differential Channel 7 (-)", 34 AIN14 (in) "Analog Input 14: Single-Ended Channel 14, Differential Channel 7 (+)", 35 AIN13 (in) "Analog Input 13: Single-Ended Channel 13, Differential Channel 6 (-)", 36 AIN12 (in) "Analog Input 12: Single-Ended Channel 12, Differential Channel 6 (+)", 37 AIN11 (in) "Analog Input 11: Single-Ended Channel 11, Differential Channel 5 (-)", 38 AIN10 (in) "Analog Input 10: Single-Ended Channel 10, Differential Channel 5 (+)", 39 AIN9 (in) "Analog Input 9: Single-Ended Channel 9, Differential Channel 4 (-)", 40 AIN8 (in) "Analog Input 8: Single-Ended Channel 8, Differential Channel 4 (+)", 41 ADCINN (in) "ADC Differential Input (-)", 42 ADCINP (in) "ADC Differential Input (+)", 43 MUXOUTN (out) "Multiplexer Differential Output (-)", 44 MUXOUTP (out) "Multiplexer Differential Output (+)", 45 AIN7 (in) "Analog Input 7: Single-Ended Channel 7, Differential Channel 3 (-)", 46 AIN6 (in) "Analog Input 6 : Single-Ended Channel 6, Differential Channel 3 (+)", 47 AIN5 (in) "Analog Input 5: Single-Ended Channel 5, Differential Channel 2 (-)", 48 AIN4 (in) "Analog Input 4: Single-Ended Channel 4, Differential Channel 2 (+)", 49 EP (power)

## V62/09626-02XE
designator U?
Enhanced Product 16-Channel, 24-Bit ADC, -55 to 125 degC, 48-pin QFP (PHP48), Green (RoHS & no Sb/Br); Manufacturer: Texas Instruments; PartNumber: V62/09626-02XE; # Input Channels: 16; Analog Voltage AV/DD(Max)(V): 5.25; Analog Voltage AV/DD(Min)(V): 4.75; Architecture: Delta-Sigma; Digital Supply(Min)(V): 2.7; Resolution(Bits): 24; Sample Rate (max)(SPS): 125k; SubFamily: Precision ADC (<=10MSPS); DatasheetVersion: SBAS445D; PackageVersion: 4146927/B, 08/2003; PackageReference: PHP48-4050X4050TP; PackageDescription: 48-Pin PowerPAD(TM) Plastic Quad Flatpack, Body 7 x 7 mm, Pitch 0.5 mm; Supplier 1: Mouser; Supplier Part Number 1: N/A; Digital Supply(Max)(V): 5.25; Eco-Plan: Green (RoHS & no Sb/Br); Mounting Technology: Surface Mount; Code_JEDEC: MS-026; ComponentLink1Description: Manufacturer URL; ComponentLink1URL: http://www.ti.com/; ComponentLink2Description: Datasheet; ComponentLink2URL: http://www.ti.com/general/docs/lit/getliterature.tsp?genericPartNumber=ADS1258-EP&fileType=pdf; ComponentLink3Description: Package Specification; ComponentLink3URL: http://www.ti.com/litv/pdf/mpqf051a
footprint TI-PHP48-4050X4050TP_N (QFP, 48-Leads, Body 7x7mm, Pitch 0.5mm, Thermal Pad 4.6x4.6mm, IPC Medium Density)
footprint TI-PHP48-4050X4050TP_L (QFP, 48-Leads, Body 7x7mm, Pitch 0.5mm, Thermal Pad 4.6x4.6mm, IPC High Density)
footprint TI-PHP48-4050X4050TP_M (QFP, 48-Leads, Body 7x7mm, Pitch 0.5mm, Thermal Pad 4.6x4.6mm, IPC Low Density)
pins: 1 AIN3 (in) "Analog Input 3: Single-Ended Channel 3, Differential Channel 1 (-)", 2 AIN2 (in) "Analog Input 2: Single-Ended Channel 2, Differential Channel 1 (+)", 3 AIN1 (in) "Analog Input 1: Single-Ended Channel 1, Differential Channel 0 (-)", 4 AIN0 (in) "Analog Input 0: Single-Ended Channel 0, Differential Channel 0 (+)", 5 AVSS (power) "Negative Analog Power Supply: 0V for unipolar operation, -2.5 V for bipolar operation. (Internally connected to exposed thermal pad of QFN package.)", 6 AVDD (power) "Positive Analog Power Supply: 5 V for unipolar operation, 2.5 V for bipolar operation.", 7 PLLCAP "PLL Bypass Capacitor: Connect 22nF capacitor to AVSS when using crystal oscillator.", 8 XTAL1 "32.768-kHz Crystal Oscillator Input 1; see the Chrystal Oscillator section.", 9 XTAL2 "32.768-kHz Crystal Oscillator Input 2; see the Chrystal Oscillator section.", 10 ~{PWDN} (in) "Power-Down Input: Hold low for minimum of two fCLK cycles to engage low-power mode.", 11 ~{RESET} (in) "Reset Input: Hold low for minimum of two fCLK cycles to reset the device.", 12 CLKSEL (in) "Clock Select Input: Low = Activates Crystal Oscillator, fCLK output on CLKIO. High = Disables Crystal Oscillator, apply fCLK to CLKIO.", 13 CLKIO (io) "System Clock Input/Output (See CLKSEL pin.)", 14 GPIO0 (io) "General-Purpose Digital Input/Output 0", 15 GPIO1 (io) "General-Purpose Digital Input/Output 1", 16 GPIO2 (io) "General-Purpose Digital Input/Output 2", 17 GPIO3 (io) "General-Purpose Digital Input/Output 3", 18 GPIO4 (io) "General-Purpose Digital Input/Output 4", 19 GPIO5 (io) "General-Purpose Digital Input/Output 5", 20 GPIO6 (io) "General-Purpose Digital Input/Output 6", 21 GPIO7 (io) "General-Purpose Digital Input/Output 7", 22 SCLK (in) "SPI Interface Clock Input: Data clocked in on rising edge, clocked out on falling edge.", 23 DIN (in) "SPI Interface Data Input: Data is input to the device.", 24 DOUT (hiz) "SPI Interface Data Output: Data is output from the device.", 25 ~{DRDY} (out) "Data Ready Output: Active low.", 26 START (in) "Start Conversion Input: Active high.", 27 ~{CS} (in) "SPI Interface Chip Select Input: Active low.", 28 DVDD (power) "Digital Power Supply: 2.7 V to 5.25 V", 29 DGND (power) "Digital Ground", 30 VREFN (in) "Reference Input Negative", 31 VREFP (in) "Reference Input Positive", 32 AINCOM (in) "Analog Input Common: Common input pin to all single-ended inputs.", 33 AIN15 (in) "Analog Input 15: Single-Ended Channel 15, Differential Channel 7 (-)", 34 AIN14 (in) "Analog Input 14: Single-Ended Channel 14, Differential Channel 7 (+)", 35 AIN13 (in) "Analog Input 13: Single-Ended Channel 13, Differential Channel 6 (-)", 36 AIN12 (in) "Analog Input 12: Single-Ended Channel 12, Differential Channel 6 (+)", 37 AIN11 (in) "Analog Input 11: Single-Ended Channel 11, Differential Channel 5 (-)", 38 AIN10 (in) "Analog Input 10: Single-Ended Channel 10, Differential Channel 5 (+)", 39 AIN9 (in) "Analog Input 9: Single-Ended Channel 9, Differential Channel 4 (-)", 40 AIN8 (in) "Analog Input 8: Single-Ended Channel 8, Differential Channel 4 (+)", 41 ADCINN (in) "ADC Differential Input (-)", 42 ADCINP (in) "ADC Differential Input (+)", 43 MUXOUTN (out) "Multiplexer Differential Output (-)", 44 MUXOUTP (out) "Multiplexer Differential Output (+)", 45 AIN7 (in) "Analog Input 7: Single-Ended Channel 7, Differential Channel 3 (-)", 46 AIN6 (in) "Analog Input 6 : Single-Ended Channel 6, Differential Channel 3 (+)", 47 AIN5 (in) "Analog Input 5: Single-Ended Channel 5, Differential Channel 2 (-)", 48 AIN4 (in) "Analog Input 4: Single-Ended Channel 4, Differential Channel 2 (+)", 49 EP (power)

## V62/09626-02YE
designator U?
Enhanced Product 16-Channel, 24-Bit ADC, -55 to 125 degC, 48-pin QFP (PHP48), Green (RoHS & no Sb/Br); Manufacturer: Texas Instruments; PartNumber: V62/09626-02YE; # Input Channels: 16; Analog Voltage AV/DD(Max)(V): 5.25; Analog Voltage AV/DD(Min)(V): 4.75; Architecture: Delta-Sigma; Digital Supply(Min)(V): 2.7; Resolution(Bits): 24; Sample Rate (max)(SPS): 125k; SubFamily: Precision ADC (<=10MSPS); DatasheetVersion: SBAS445D; PackageVersion: 4146927/B, 08/2003; PackageReference: PHP48-4050X4050TP; PackageDescription: 48-Pin PowerPAD(TM) Plastic Quad Flatpack, Body 7 x 7 mm, Pitch 0.5 mm; Digital Supply(Max)(V): 5.25; Eco-Plan: Green (RoHS & no Sb/Br); Mounting Technology: Surface Mount; Code_JEDEC: MS-026; ComponentLink1Description: Manufacturer URL; ComponentLink1URL: http://www.ti.com/; ComponentLink2Description: Datasheet; ComponentLink2URL: http://www.ti.com/general/docs/lit/getliterature.tsp?genericPartNumber=ADS1258-EP&fileType=pdf; ComponentLink3Description: Package Specification; ComponentLink3URL: http://www.ti.com/litv/pdf/mpqf051a
footprint TI-PHP48-4050X4050TP_N (QFP, 48-Leads, Body 7x7mm, Pitch 0.5mm, Thermal Pad 4.6x4.6mm, IPC Medium Density)
footprint TI-PHP48-4050X4050TP_L (QFP, 48-Leads, Body 7x7mm, Pitch 0.5mm, Thermal Pad 4.6x4.6mm, IPC High Density)
footprint TI-PHP48-4050X4050TP_M (QFP, 48-Leads, Body 7x7mm, Pitch 0.5mm, Thermal Pad 4.6x4.6mm, IPC Low Density)
pins: 1 AIN3 (in) "Analog Input 3: Single-Ended Channel 3, Differential Channel 1 (-)", 2 AIN2 (in) "Analog Input 2: Single-Ended Channel 2, Differential Channel 1 (+)", 3 AIN1 (in) "Analog Input 1: Single-Ended Channel 1, Differential Channel 0 (-)", 4 AIN0 (in) "Analog Input 0: Single-Ended Channel 0, Differential Channel 0 (+)", 5 AVSS (power) "Negative Analog Power Supply: 0V for unipolar operation, -2.5 V for bipolar operation. (Internally connected to exposed thermal pad of QFN package.)", 6 AVDD (power) "Positive Analog Power Supply: 5 V for unipolar operation, 2.5 V for bipolar operation.", 7 PLLCAP "PLL Bypass Capacitor: Connect 22nF capacitor to AVSS when using crystal oscillator.", 8 XTAL1 "32.768-kHz Crystal Oscillator Input 1; see the Chrystal Oscillator section.", 9 XTAL2 "32.768-kHz Crystal Oscillator Input 2; see the Chrystal Oscillator section.", 10 ~{PWDN} (in) "Power-Down Input: Hold low for minimum of two fCLK cycles to engage low-power mode.", 11 ~{RESET} (in) "Reset Input: Hold low for minimum of two fCLK cycles to reset the device.", 12 CLKSEL (in) "Clock Select Input: Low = Activates Crystal Oscillator, fCLK output on CLKIO. High = Disables Crystal Oscillator, apply fCLK to CLKIO.", 13 CLKIO (io) "System Clock Input/Output (See CLKSEL pin.)", 14 GPIO0 (io) "General-Purpose Digital Input/Output 0", 15 GPIO1 (io) "General-Purpose Digital Input/Output 1", 16 GPIO2 (io) "General-Purpose Digital Input/Output 2", 17 GPIO3 (io) "General-Purpose Digital Input/Output 3", 18 GPIO4 (io) "General-Purpose Digital Input/Output 4", 19 GPIO5 (io) "General-Purpose Digital Input/Output 5", 20 GPIO6 (io) "General-Purpose Digital Input/Output 6", 21 GPIO7 (io) "General-Purpose Digital Input/Output 7", 22 SCLK (in) "SPI Interface Clock Input: Data clocked in on rising edge, clocked out on falling edge.", 23 DIN (in) "SPI Interface Data Input: Data is input to the device.", 24 DOUT (hiz) "SPI Interface Data Output: Data is output from the device.", 25 ~{DRDY} (out) "Data Ready Output: Active low.", 26 START (in) "Start Conversion Input: Active high.", 27 ~{CS} (in) "SPI Interface Chip Select Input: Active low.", 28 DVDD (power) "Digital Power Supply: 2.7 V to 5.25 V", 29 DGND (power) "Digital Ground", 30 VREFN (in) "Reference Input Negative", 31 VREFP (in) "Reference Input Positive", 32 AINCOM (in) "Analog Input Common: Common input pin to all single-ended inputs.", 33 AIN15 (in) "Analog Input 15: Single-Ended Channel 15, Differential Channel 7 (-)", 34 AIN14 (in) "Analog Input 14: Single-Ended Channel 14, Differential Channel 7 (+)", 35 AIN13 (in) "Analog Input 13: Single-Ended Channel 13, Differential Channel 6 (-)", 36 AIN12 (in) "Analog Input 12: Single-Ended Channel 12, Differential Channel 6 (+)", 37 AIN11 (in) "Analog Input 11: Single-Ended Channel 11, Differential Channel 5 (-)", 38 AIN10 (in) "Analog Input 10: Single-Ended Channel 10, Differential Channel 5 (+)", 39 AIN9 (in) "Analog Input 9: Single-Ended Channel 9, Differential Channel 4 (-)", 40 AIN8 (in) "Analog Input 8: Single-Ended Channel 8, Differential Channel 4 (+)", 41 ADCINN (in) "ADC Differential Input (-)", 42 ADCINP (in) "ADC Differential Input (+)", 43 MUXOUTN (out) "Multiplexer Differential Output (-)", 44 MUXOUTP (out) "Multiplexer Differential Output (+)", 45 AIN7 (in) "Analog Input 7: Single-Ended Channel 7, Differential Channel 3 (-)", 46 AIN6 (in) "Analog Input 6 : Single-Ended Channel 6, Differential Channel 3 (+)", 47 AIN5 (in) "Analog Input 5: Single-Ended Channel 5, Differential Channel 2 (-)", 48 AIN4 (in) "Analog Input 4: Single-Ended Channel 4, Differential Channel 2 (+)", 49 EP (power)

## V62/10603-01XE
designator U?
Enhanced Product 2-Bit 200 kSPS ADC Serial Out, Auto Power Down (Software and Hardware), Low Power with 8 x FIFO, -55 to 125 degC, 20-pin SOP (PW20), Green (RoHS & no Sb/Br); Manufacturer: Texas Instruments; PartNumber: V62/10603-01XE; # Input Channels: 8; Analog Voltage AV/DD(Max)(V): 5.5; Analog Voltage AV/DD(Min)(V): 3; Architecture: SAR; ENOB(Bits): 11.6; INL(Max)(+/-LSB): 1.2; Interface: Serial SPI; Resolution(Bits): 12; Sample Rate (max)(SPS): 200k; SFDR(dB): 84; SINAD(dB): 71; SubFamily: Precision ADC (<=10MSPS); DatasheetVersion: SLAS668; PackageVersion: 4040064-5/G, 02/2011; PackageReference: PW20; PackageDescription: 20-Pin Plastic Small Outline, Body 6.5 x 4.4 mm, Pitch 0.65 mm; Digital Supply(Max)(V): 5.5; Digital Supply(Min)(V): 3; Eco-Plan: Green (RoHS & no Sb/Br); Mounting Technology: Surface Mount; Code_JEDEC: MO-153; ComponentLink1Description: Manufacturer URL; ComponentLink1URL: http://www.ti.com/; ComponentLink2Description: Datasheet; ComponentLink2URL: http://www.ti.com/general/docs/lit/getliterature.tsp?genericPartNumber=TLV2548-EP&fileType=pdf; ComponentLink3Description: Package Specification; ComponentLink3URL: http://www.ti.com.cn/cn/lit/ml/mpds362/mpds362.pdf
footprint TI-PW20_N (SOP, 20-Leads, Body 6.5x4.4mm, Pitch 0.65mm, IPC Medium Density)
footprint TI-PW20_L (SOP, 20-Leads, Body 6.5x4.4mm, Pitch 0.65mm, IPC High Density)
footprint TI-PW20_M (SOP, 20-Leads, Body 6.5x4.4mm, Pitch 0.65mm, IPC Low Density)
pins: 1 SDO (hiz) "The 3-state serial output for the A/D conversion result. SDO is kept in the high-impedance state when C\S\ is high and after the C\S\ falling edge and until the MSB (D15) is presented. The output format is MSB (D15) first. (See Datasheet)", 2 SDI (in) "Serial data input. The input data is presented with the MSB (D15) first. The first 4-bit MSBs, D(15-12) are decoded as one of the 16 commands (12 only for the TLC1514). All trailing blanks are filled with zeros. The (See Datasheet)", 3 SCLK (in) "Input serial clock. This terminal receives the serial SCLK from the host processor. SCLK is used to clock the input SDI to the input register. It is also used as the source of the conversion clock.", 4 EOC/(~{INT}) (out), 5 VCC (power) "Positive supply voltage", 6 A0 (in) "Analog signal input. The analog inputs are applied to these terminals and are internally multiplexed. The driving source impedance should be less than or equal to 1 kohm. For a source impedance greater than 1 kohm, use the (See Datasheet)", 7 A1 (in) "Analog signal input. The analog inputs are applied to these terminals and are internally multiplexed. The driving source impedance should be less than or equal to 1 kohm. For a source impedance greater than 1 kohm, use the (See Datasheet)", 8 A2 (in) "Analog signal input. The analog inputs are applied to these terminals and are internally multiplexed. The driving source impedance should be less than or equal to 1 kohm. For a source impedance greater than 1 kohm, use the (See Datasheet)", 9 A3 (in) "Analog signal input. The analog inputs are applied to these terminals and are internally multiplexed. The driving source impedance should be less than or equal to 1 kohm. For a source impedance greater than 1 kohm, use the (See Datasheet)", 10 A4 (in) "Analog signal input. The analog inputs are applied to these terminals and are internally multiplexed. The driving source impedance should be less than or equal to 1 kohm. For a source impedance greater than 1 kohm, use the (See Datasheet)", 11 A5 (in) "Analog signal input. The analog inputs are applied to these terminals and are internally multiplexed. The driving source impedance should be less than or equal to 1 kohm. For a source impedance greater than 1 kohm, use the (See Datasheet)", 12 A6 (in) "Analog signal input. The analog inputs are applied to these terminals and are internally multiplexed. The driving source impedance should be less than or equal to 1 kohm. For a source impedance greater than 1 kohm, use the (See Datasheet)", 13 A7 (in) "Analog signal input. The analog inputs are applied to these terminals and are internally multiplexed. The driving source impedance should be less than or equal to 1 kohm. For a source impedance greater than 1 kohm, use the (See Datasheet)", 14 ~{CSTART} (in) "This terminal controls the start of sampling of the analog input from a selected multiplex channel. A high-to-low transition starts sampling of the analog input signal. A low-to-high transition puts the S/H in hold mode and (See Datasheet)", 15 GND (power) "Ground return for the internal circuitry. Unless otherwise noted, all voltage measurements are with respect to GND.", 16 ~{PWDN} (in) "Both analog and reference circuits are powered down when this pin is at logic zero. The device can be restarted by active C\S\ or C\S\T\A\R\T\ after this pin is pulled back to logic one.", 17 FS (in) "DSP frame sync input. Indication of the start of a serial data frame in or out of the device. If FS remains low at the falling edge of C\S\, SDI is not enabled until an active FS is presented. A high-to-low transition on the (See Datasheet)", 18 REFM (in) "External reference input or internal reference decoupling.", 19 REFP (in) "External reference input or internal reference decoupling. (Shunt capacitors of 10 uf and 0.1 uf between REFP and REFM.) The maximum input voltage range is determined by the difference between the voltage applied to this (See Datasheet)", 20 ~{CS} (in) "Chip select. A high-to-low transition on the C\S\ input resets the internal 4-bit counter, enables SDI, and removes SDO from 3-state within a maximum setup time. SDI is disabled within a setup time after the 4-bit counter (See Datasheet)"